# Altium footprint library DIP-CN  0607.PcbLib: 329 footprints (part 12 of 21)
Each footprint in its own frame and in the unit in brackets; x right, y up, seen from the top. Pads: shape width x height; smd on the part's side, far side on the other; paste and mask are expansions set on the pad; w line width, h text height; cw(c..) or ccw(c..) is an arc to the next point about the centre after c.
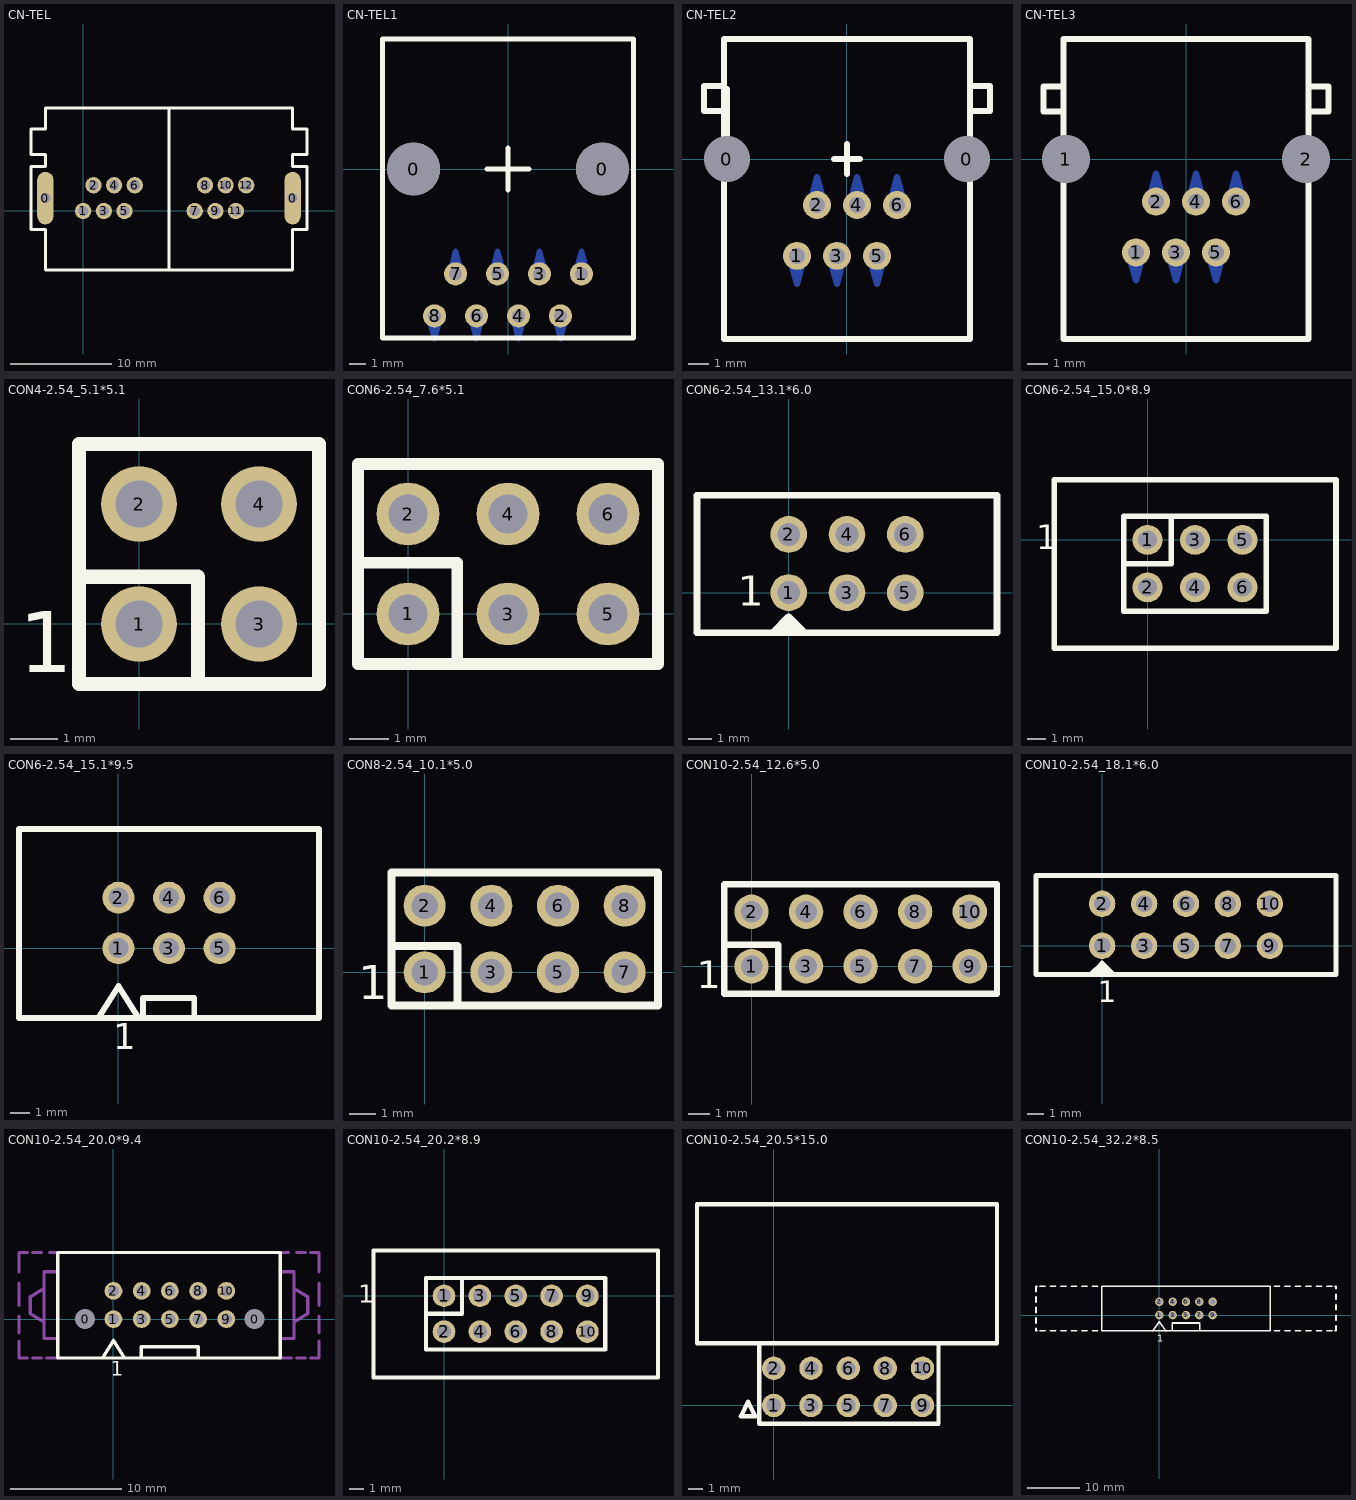
[diagram p11: the footprints below, top view; thin cyan lines are the x and y axes]

## CN-TEL [mm]
pads (14):
  oval 1.6x5.2 hole 1: 0(-3.734,1.27) 0(20.666,1.27)
  round 1.6 hole 1: 1(0,0) 2(1.022,2.54) 3(2.038,0) 4(3.054,2.54) 5(4.07,0) 6(5.086,2.54) 7(11.005,0) 8(12.021,2.54) 9(13.037,0) 10(14.053,2.54) 11(15.069,0) 12(16.085,2.54)
TopOverlay:
  lines w0.3: 8.466,-5.83 8.466,10.17 ; -5.134,-1.83 -3.734,-1.83 -3.734,-5.83 20.666,-5.83 20.666,-1.83 22.066,-1.83 22.066,4.37 20.666,4.37 20.666,5.57 22.066,5.57 22.066,8.07 20.666,8.07 20.666,10.17 -3.734,10.17 -3.734,8.07 -5.134,8.07 -5.134,5.57 -3.734,5.57 -3.734,4.37 -5.134,4.37 -5.134,-1.83
DrillDrawing:
  lines w0.3: -4.234,-0.33 -4.234,2.87 -3.234,2.87 -3.234,-0.33 -4.234,-0.33 ; 20.166,-0.33 20.166,2.87 21.166,2.87 21.166,-0.33 20.166,-0.33
  text "1X3.2" at -4.572,-1.016 h1.3
  text "1X3.2" at 22.86,-1.016 h1.3

## CN-TEL1 [mm]
pads (10):
  round 3.2 hole 3.2 unplated: 0(-5.715,0) 0(5.715,0)
  round 1.4 hole 0.8: 1(4.445,-6.35) 2(3.175,-8.89) 3(1.905,-6.35) 4(0.635,-8.89) 5(-0.635,-6.35) 6(-1.905,-8.89) 7(-3.175,-6.35) 8(-4.445,-8.89)
BottomLayer:
  lines w0.3: -4.851,-8.89 -4.445,-10.29 ; -4.445,-8.89 -4.445,-10.29 ; -4.064,-8.89 -4.445,-10.29 ; -3.556,-6.35 -3.175,-4.95 ; -3.175,-6.35 -3.175,-4.95 ; -2.769,-6.35 -3.175,-4.95 ; -2.311,-8.89 -1.905,-10.29 ; -1.905,-8.89 -1.905,-10.29 ; -1.524,-8.89 -1.905,-10.29 ; -1.016,-6.35 -0.635,-4.95 ; -0.635,-6.35 -0.635,-4.95 ; -0.229,-6.35 -0.635,-4.95 ; 0.229,-8.89 0.635,-10.29 ; 0.635,-8.89 0.635,-10.29 ; 1.016,-8.89 0.635,-10.29 ; 1.524,-6.35 1.905,-4.95 ; 1.905,-6.35 1.905,-4.95 ; 2.311,-6.35 1.905,-4.95 ; 2.769,-8.89 3.175,-10.29 ; 3.175,-8.89 3.175,-10.29 ; 3.556,-8.89 3.175,-10.29 ; 4.064,-6.35 4.445,-4.95 ; 4.445,-6.35 4.445,-4.95 ; 4.851,-6.35 4.445,-4.95
TopOverlay:
  lines w0.3: -1.27,0 1.27,0 ; 0,-1.27 0,1.27 ; -7.6,-10.23 -7.6,7.87 7.6,7.87 7.6,-10.23 -7.6,-10.23
BottomOverlay:
  lines w0.3: -5.461,-7.62 4.953,-7.62 ; -4.445,-7.62 -4.445,-4.851 ; -3.175,-10.236 -3.175,-7.62 ; -1.905,-7.62 -1.905,-4.877 ; -0.635,-10.236 -0.635,-7.62 ; 0.635,-7.62 0.635,-4.928 ; 1.905,-10.236 1.905,-7.62 ; 3.175,-7.62 3.175,-4.953 ; 4.445,-10.236 4.445,-7.62
BottomSolder:
  lines w0.3: -4.877,-8.89 -4.445,-10.29 ; -4.445,-8.89 -4.445,-10.29 ; -4.013,-8.89 -4.445,-10.29 ; -3.607,-6.35 -3.175,-4.95 ; -3.175,-6.35 -3.175,-4.95 ; -2.743,-6.35 -3.175,-4.95 ; -2.337,-8.89 -1.905,-10.29 ; -1.905,-8.89 -1.905,-10.29 ; -1.473,-8.89 -1.905,-10.29 ; -1.067,-6.35 -0.635,-4.95 ; -0.635,-6.35 -0.635,-4.95 ; -0.203,-6.35 -0.635,-4.95 ; 0.203,-8.89 0.635,-10.29 ; 0.635,-8.89 0.635,-10.29 ; 1.067,-8.89 0.635,-10.29 ; 1.473,-6.35 1.905,-4.95 ; 1.905,-6.35 1.905,-4.95 ; 2.337,-6.35 1.905,-4.95 ; 2.743,-8.89 3.175,-10.29 ; 3.175,-8.89 3.175,-10.29 ; 3.607,-8.89 3.175,-10.29 ; 4.013,-6.35 4.445,-4.95 ; 4.445,-6.35 4.445,-4.95 ; 4.877,-6.35 4.445,-4.95

## CN-TEL2 [mm]
pads (8):
  round 2 hole 2.3 unplated: 0(-6,0) 0(6,0)
  round 1.4 hole 0.8: 1(-2.5,-4.84) 2(-1.5,-2.3) 3(-0.5,-4.84) 4(0.5,-2.3) 5(1.5,-4.84) 6(2.5,-2.3)
BottomLayer:
  lines w0.3: -2.906,-4.84 -2.5,-6.24 ; -2.5,-4.84 -2.5,-6.24 ; -2.119,-4.84 -2.5,-6.24 ; -1.881,-2.3 -1.5,-0.9 ; -1.5,-2.3 -1.5,-0.9 ; -1.094,-2.3 -1.5,-0.9 ; -0.906,-4.84 -0.5,-6.24 ; -0.5,-4.84 -0.5,-6.24 ; -0.119,-4.84 -0.5,-6.24 ; 0.119,-2.3 0.5,-0.9 ; 0.5,-2.3 0.5,-0.9 ; 0.906,-2.3 0.5,-0.9 ; 1.094,-4.84 1.5,-6.24 ; 1.5,-4.84 1.5,-6.24 ; 1.881,-4.84 1.5,-6.24 ; 2.119,-2.3 2.5,-0.9 ; 2.5,-2.3 2.5,-0.9 ; 2.906,-2.3 2.5,-0.9
TopOverlay:
  lines w0.3: -6.175,2.4 -7.15,2.4 -7.15,3.65 -6.15,3.65 ; -6,0 -6,3.5 ; -0.65,0 0.65,0 ; 0,-0.75 0,0.75 ; 6.15,3.65 7.15,3.65 7.15,2.4 6.175,2.4 ; -6.15,-9 6.15,-9 6.15,6 -6.15,6 -6.15,-9
BottomOverlay:
  lines w0.3: -3,-3.575 3,-3.575 ; -2.55,-3.575 -2.548,-0.683 ; -1.5,-6.45 -1.498,-3.558 ; -0.5,-3.575 -0.498,-0.683 ; 0.5,-6.45 0.502,-3.558 ; 1.498,-3.592 1.5,-0.7
  text "6" at 4.25,-2.67 h1.1
  text "1" at -3.75,-5.42 h1.1
BottomSolder:
  lines w0.3: -2.932,-4.84 -2.5,-6.24 ; -2.5,-4.84 -2.5,-6.24 ; -2.068,-4.84 -2.5,-6.24 ; -1.932,-2.3 -1.5,-0.9 ; -1.5,-2.3 -1.5,-0.9 ; -1.068,-2.3 -1.5,-0.9 ; -0.932,-4.84 -0.5,-6.24 ; -0.5,-4.84 -0.5,-6.24 ; -0.068,-4.84 -0.5,-6.24 ; 0.068,-2.3 0.5,-0.9 ; 0.5,-2.3 0.5,-0.9 ; 0.932,-2.3 0.5,-0.9 ; 1.068,-4.84 1.5,-6.24 ; 1.5,-4.84 1.5,-6.24 ; 1.932,-4.84 1.5,-6.24 ; 2.068,-2.3 2.5,-0.9 ; 2.5,-2.3 2.5,-0.9 ; 2.932,-2.3 2.5,-0.9

## CN-TEL3 [mm]
pads (8):
  round 2 hole 2.4 unplated: 1(-6,0) 2(6,0)
  round 1.4 hole 0.8: 1(-2.5,-4.67) 2(-1.5,-2.13) 3(-0.5,-4.67) 4(0.5,-2.13) 5(1.5,-4.67) 6(2.5,-2.13)
BottomLayer:
  lines w0.3: -2.906,-4.67 -2.5,-6.07 ; -2.5,-4.67 -2.5,-6.07 ; -2.119,-4.67 -2.5,-6.07 ; -1.881,-2.13 -1.5,-0.73 ; -1.5,-2.13 -1.5,-0.73 ; -1.094,-2.13 -1.5,-0.73 ; -0.906,-4.67 -0.5,-6.07 ; -0.5,-4.67 -0.5,-6.07 ; -0.119,-4.67 -0.5,-6.07 ; 0.119,-2.13 0.5,-0.73 ; 0.5,-2.13 0.5,-0.73 ; 0.906,-2.13 0.5,-0.73 ; 1.094,-4.67 1.5,-6.07 ; 1.5,-4.67 1.5,-6.07 ; 1.881,-4.67 1.5,-6.07 ; 2.119,-2.13 2.5,-0.73 ; 2.5,-2.13 2.5,-0.73 ; 2.906,-2.13 2.5,-0.73
TopOverlay:
  lines w0.3: -6.13,2.37 -7.13,2.37 -7.13,3.62 -6.13,3.62 ; 6.13,2.37 7.13,2.37 7.13,3.62 6.13,3.62 ; -6.13,-9 -6.13,6 6.13,6 6.13,-9 -6.13,-9
BottomOverlay:
  lines w0.3: -3,-3.405 3,-3.405 ; -1.5,-6.28 -1.498,-3.388 ; -0.5,-3.405 -0.498,-0.513 ; 0.5,-6.28 0.502,-3.388 ; 1.498,-3.422 1.5,-0.53
  text "1" at -3.75,-5.25 h1.1
  text "6" at 4.25,-2.5 h1.1
BottomSolder:
  lines w0.3: -2.932,-4.67 -2.5,-6.07 ; -2.5,-4.67 -2.5,-6.07 ; -2.068,-4.67 -2.5,-6.07 ; -1.932,-2.13 -1.5,-0.73 ; -1.5,-2.13 -1.5,-0.73 ; -1.068,-2.13 -1.5,-0.73 ; -0.932,-4.67 -0.5,-6.07 ; -0.5,-4.67 -0.5,-6.07 ; -0.068,-4.67 -0.5,-6.07 ; 0.068,-2.13 0.5,-0.73 ; 0.5,-2.13 0.5,-0.73 ; 0.932,-2.13 0.5,-0.73 ; 1.068,-4.67 1.5,-6.07 ; 1.5,-4.67 1.5,-6.07 ; 1.932,-4.67 1.5,-6.07 ; 2.068,-2.13 2.5,-0.73 ; 2.5,-2.13 2.5,-0.73 ; 2.932,-2.13 2.5,-0.73

## CON4-2.54_5.1*5.1 [mm]
pads (4):
  round 1.6 hole 1: 1(-0.007,-0.008) 2(-0.007,2.532) 3(2.533,-0.008) 4(2.533,2.532)
TopOverlay:
  lines w0.3: -1.257,0.992 1.243,0.992 1.243,-1.258 ; -1.277,-1.278 -1.277,3.802 3.803,3.802 3.803,-1.278 -1.277,-1.278
  text "1" at -2.547,-1.024 h1.3

## CON6-2.54_7.6*5.1 [mm]
pads (6):
  round 1.6 hole 1: 1(-0.004,-0.003) 2(-0.004,2.537) 3(2.536,-0.003) 4(2.536,2.537) 5(5.076,-0.003) 6(5.076,2.537)
TopOverlay:
  lines w0.3: -1.274,1.297 1.246,1.297 1.246,-1.248 ; -1.274,-1.273 -1.274,3.807 6.346,3.807 6.346,-1.273 -1.274,-1.273

## CON6-2.54_13.1*6.0 [mm]
pads (6):
  round 1.6 hole 1: 1(0,0) 2(0,2.54) 3(2.54,0) 4(2.54,2.54) 5(5.08,0) 6(5.08,2.54)
TopOverlay:
  lines w0.3: -0.7,-1.75 0,-1.05 ; -0.515,-1.565 0.515,-1.565 ; -0.423,-1.473 0.306,-1.473 ; -0.258,-1.308 0.251,-1.308 ; 0,-1.75 0,-1.05 ; 0.7,-1.75 0,-1.05 ; -4,-1.75 -4,4.25 9.08,4.25 9.08,-1.75 -4,-1.75
  text "1" at -2.225,-0.575 h1.3

## CON6-2.54_15.0*8.9 [mm]
pads (6):
  round 1.6 hole 1: 1(0,0) 2(0,-2.54) 3(2.54,0) 4(2.54,-2.54) 5(5.08,0) 6(5.08,-2.54)
TopOverlay:
  lines w0.3: -1.27,-1.27 1.27,-1.27 1.27,1.27 ; -5,-5.79 -5,3.21 10.08,3.21 10.08,-5.79 -5,-5.79 ; -1.27,-3.81 6.34,-3.81 6.34,1.27 -1.27,1.27 -1.27,-3.81
  text "1" at -5.969,-0.508 h1.3

## CON6-2.54_15.1*9.5 [mm]
pads (6):
  round 1.6 hole 1: 1(0,0) 2(0,2.54) 3(2.54,0) 4(2.54,2.54) 5(5.08,0) 6(5.08,2.54)
TopOverlay:
  lines w0.3: 1.23,-3.5 1.23,-2.5 3.81,-2.5 3.81,-3.5 ; -1,-3.5 1,-3.5 ; -1,-3.5 1,-3.5 ; -1,-3.5 1,-3.5 ; -1,-3.5 0,-1.905 1,-3.5 ; -5,-3.5 -5,6 10.08,6 10.08,-3.5 -5,-3.5
  text "1" at -0.254,-5.08 h1.3
BottomOverlay:
  lines w0.3: -1.016,1.27 6.096,1.27 ; 1.27,-0.889 1.27,3.556 ; 3.81,-0.889 3.81,3.556

## CON8-2.54_10.1*5.0 [mm]
pads (8):
  round 1.6 hole 1: 1(0,0) 2(0,2.54) 3(2.54,0) 4(2.54,2.54) 5(5.08,0) 6(5.08,2.54) 7(7.62,0) 8(7.62,2.54)
TopOverlay:
  lines w0.3: -1.25,1 1.25,1 1.25,-1.25 ; -1.27,-1.27 -1.27,3.81 8.89,3.81 8.89,-1.27 -1.27,-1.27
  text "1" at -2.54,-1.016 h1.3
BottomOverlay:
  lines w0.3: -1.016,1.27 8.509,1.27 ; 1.27,-0.889 1.27,3.556 ; 3.81,-0.889 3.81,3.556 ; 6.35,-0.889 6.35,3.556

## CON10-2.54_12.6*5.0 [mm]
pads (10):
  round 1.6 hole 1: 1(0,0) 2(0,2.54) 3(2.54,0) 4(2.54,2.54) 5(5.08,0) 6(5.08,2.54) 7(7.62,0) 8(7.62,2.54) 9(10.16,0) 10(10.16,2.54)
TopOverlay:
  lines w0.3: -1.25,1 1.25,1 1.25,-1.25 ; -1.27,-1.27 -1.27,3.81 11.43,3.81 11.43,-1.27 -1.27,-1.27
  text "1" at -2.54,-1.016 h1.3
BottomOverlay:
  lines w0.3: -1.016,1.27 11.176,1.27 ; 1.27,-0.889 1.27,3.556 ; 3.81,-0.889 3.81,3.556 ; 6.35,-0.889 6.35,3.556 ; 8.89,-0.889 8.89,3.556

## CON10-2.54_18.1*6.0 [mm]
pads (10):
  round 1.6 hole 1: 1(0,0) 2(0,2.54) 3(2.54,0) 4(2.54,2.54) 5(5.08,0) 6(5.08,2.54) 7(7.62,0) 8(7.62,2.54) 9(10.16,0) 10(10.16,2.54)
TopOverlay:
  lines w0.3: -0.7,-1.75 0,-1.05 ; -0.515,-1.565 0.515,-1.565 ; -0.423,-1.473 0.306,-1.473 ; -0.258,-1.308 0.251,-1.308 ; 0,-1.75 0,-1.05 ; 0.7,-1.75 0,-1.05 ; -4,-1.75 -4,4.25 14.16,4.25 14.16,-1.75 -4,-1.75
  text "1" at -0.254,-3.429 h1.3

## CON10-2.54_20.0*9.4 [mm]
pads (12):
  round 1.5 hole 1.8 unplated: 0(-2.54,0) 0(12.7,0)
  round 1.6 hole 1: 1(0,0) 2(0,2.54) 3(2.54,0) 4(2.54,2.54) 5(5.08,0) 6(5.08,2.54) 7(7.62,0) 8(7.62,2.54) 9(10.16,0) 10(10.16,2.54)
TopOverlay:
  lines w0.3: 2.5,-3.5 2.5,-2.5 7.62,-2.5 7.62,-3.5 ; -1,-3.5 0,-1.905 1,-3.5 ; -1,-3.5 1,-3.5 ; -1,-3.5 1,-3.5 ; -1,-3.5 1,-3.5 ; -5,-3.5 15,-3.5 15,6 -5,6 -5,-3.5
  text "1" at -0.254,-5.08 h1.3
BottomOverlay:
  lines w0.3: -1.016,1.27 11.176,1.27 ; 1.27,-0.889 1.27,3.556 ; 3.81,-0.889 3.81,3.556 ; 6.35,-0.889 6.35,3.556 ; 8.89,-0.889 8.89,3.556
Mechanical7:
  lines w0.3: -8.5,-2 -8.5,-3.5 -7.75,-3.5 ; -8.5,-1.25 -8.5,0.25 ; -8.5,1.25 -8.5,3.25 ; -8.5,4.25 -8.5,6 -7.75,6 ; -7.25,-3.5 -6.5,-3.5 ; -7.25,6 -6.5,6 ; -6,-3.5 -5,-3.5 ; -5.75,6 -5,6 ; -5,-1.75 -6.25,-1.75 -6.25,-0.25 ; -5,4.25 -6.25,4.25 -6.25,2.75 ; 15,-3.5 16,-3.5 ; 15,-1.75 16.25,-1.75 16.25,-0.25 ; 15,4.25 16.25,4.25 16.25,2.75 ; 15,6 15.75,6 ; 16.5,-3.5 17.25,-3.5 ; 16.5,6 17.25,6 ; 17.75,-3.5 18.5,-3.5 18.5,-2 ; 17.75,6 18.5,6 18.5,4.25 ; 18.5,-1.25 18.5,0.25 ; 18.5,1.25 18.5,3.25 ; -6.25,-0.25 -6.25,2.75 ; -6.25,-0.25 -7.5,0.5 -7.5,2 -6.25,2.75 ; 16.25,-0.25 17.5,0.5 17.5,2 16.25,2.75 ; 16.25,-0.25 16.25,2.75

## CON10-2.54_20.2*8.9 [mm]
pads (10):
  round 1.6 hole 1: 1(0,0) 2(0,-2.54) 3(2.54,0) 4(2.54,-2.54) 5(5.08,0) 6(5.08,-2.54) 7(7.62,0) 8(7.62,-2.54) 9(10.16,0) 10(10.16,-2.54)
TopOverlay:
  lines w0.3: -1.27,-1.27 1.27,-1.27 1.27,1.27 ; -5,-5.79 15.16,-5.79 15.16,3.21 -5,3.21 -5,-5.79 ; -1.27,-3.81 -1.27,1.27 11.42,1.27 11.42,-3.81 -1.27,-3.81
  text "1" at -6.096,-0.508 h1.3

## CON10-2.54_20.5*15.0 [mm]
pads (10):
  round 1.6 hole 1: 1(0,0) 2(0,2.54) 3(2.54,0) 4(2.54,2.54) 5(5.08,0) 6(5.08,2.54) 7(7.62,0) 8(7.62,2.54) 9(10.16,0) 10(10.16,2.54)
TopOverlay:
  lines w0.3: -1,4.25 -1,-1.25 11.25,-1.25 11.25,4.25 ; -5.25,4.25 -5.25,13.75 15.25,13.75 15.25,4.25 -5.25,4.25 ; -2.25,-0.75 -1.75,0.25 -1.25,-0.75 -1.5,-0.75 -2,-0.75 -2.25,-0.75
BottomOverlay:
  lines w0.3: -1.016,1.27 11.176,1.27 ; 1.27,-0.889 1.27,3.556 ; 3.81,-0.889 3.81,3.556 ; 6.35,-0.889 6.35,3.556 ; 8.89,-0.889 8.89,3.556

## CON10-2.54_32.2*8.5 [mm]
pads (10):
  round 1.6 hole 1: 1(0,0) 2(0,2.54) 3(2.54,0) 4(2.54,2.54) 5(5.08,0) 6(5.08,2.54) 7(7.62,0) 8(7.62,2.54) 9(10.16,0) 10(10.16,2.54)
TopOverlay:
  lines w0.3: -23.501,-2.503 -23.501,-3.003 -23.251,-3.003 ; -23.501,-1.503 -23.501,-0.503 ; -23.501,0.497 -23.501,1.497 ; -23.501,2.497 -23.501,3.497 ; -23.501,4.497 -23.501,5.497 -23.251,5.497 ; -22.751,-3.003 -21.751,-3.003 ; -22.751,5.497 -21.751,5.497 ; -20.751,-3.003 -19.751,-3.003 ; -20.751,5.497 -19.751,5.497 ; -18.751,-3.003 -17.751,-3.003 ; -18.751,5.497 -17.751,5.497 ; -16.751,-3.003 -15.751,-3.003 ; -16.751,5.497 -15.751,5.497 ; -14.751,-3.003 -13.751,-3.003 ; -14.751,5.497 -13.751,5.497 ; -12.751,-3.003 -11.751,-3.003 ; -12.751,5.497 -11.751,5.497 ; -1.271,-3.051 -0.001,-1.273 1.269,-3.051 ; 2.459,-3.003 2.459,-1.503 7.709,-1.503 7.709,-3.003 ; 21.158,-2.997 -11.001,-3.003 -11.001,5.497 21.158,5.486 ; 21.169,-3.003 21.169,5.497 ; 21.919,-3.003 22.919,-3.003 ; 21.919,5.497 22.919,5.497 ; 23.919,-3.003 24.919,-3.003 ; 23.919,5.497 24.919,5.497 ; 25.919,-3.003 26.919,-3.003 ; 25.919,5.497 26.919,5.497 ; 27.919,-3.003 28.919,-3.003 ; 27.919,5.497 28.919,5.497 ; 29.919,-3.003 30.919,-3.003 ; 29.919,5.497 30.919,5.497 ; 31.919,-3.003 32.919,-3.003 ; 31.919,5.497 32.919,5.497 ; 33.419,-3.003 33.669,-3.003 33.669,-2.003 ; 33.419,5.497 33.669,5.497 33.669,4.997 ; 33.669,-1.003 33.669,-0.003 ; 33.669,0.997 33.669,1.997 ; 33.669,2.997 33.669,3.997
  text "1" at -0.381,-5.08 h1.3
BottomOverlay:
  lines w0.3: -1.016,1.27 11.176,1.27 ; 1.27,-0.889 1.27,3.556 ; 3.81,-0.889 3.81,3.556 ; 6.35,-0.889 6.35,3.556 ; 8.89,-0.889 8.89,3.556